# Altium schematic symbol library References.SchLib: 4 symbols
Pins are listed as number, name and electrical type; pins without a type are passive.

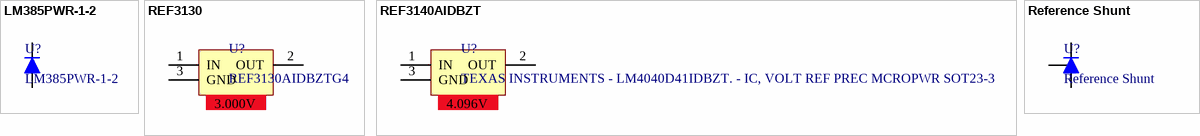
[diagram p0: symbols LM385PWR-1-2 to Reference Shunt]

## LM385PWR-1-2
designator U?
LM385B-1.2 Micropower Voltage References; Catalog number: 595-LM385PWR-1-2; Value: LM385PWR-1-2; Catalog: *; Price: 0,241
footprint TSSOP-8 pich 0.65 (TSOP, 8-Leads, Body 3.1x4.5mm (max), Pitch 0.65mm, IPC Medium Density)
pins: 4 A, 8 C

## REF3130
designator U?, comment REF3130AIDBZTG4
TEXAS INSTRUMENTS  REF3130AIDBZTG4  IC, SM, VOLT REF, 100UA; Catalog number: 1180187; Value: REF3130AIDBZTG4; Price: 1,54
footprint SOT23-3L (SOT23, 3-Leads, Body 2.9x1.3mm, Pitch 0.95mm, Lead Span 2.5mm, IPC High Density)
pins: 1 IN, 2 OUT, 3 GND
text: 3.000V

## REF3140AIDBZT
designator U?, comment TEXAS INSTRUMENTS - LM4040D41IDBZT. - IC, VOLT REF PREC MCROPWR SOT23-3
TEXAS INSTRUMENTS - REF3140AIDBZT - VOLTAGE REF, 4.096V, SOT-23-3; Catalog number: 2436711; Value: REF3140AIDBZT
footprint SOT23-3L (SOT23, 3-Leads, Body 2.9x1.3mm, Pitch 0.95mm, Lead Span 2.5mm, IPC High Density)
pins: 1 IN, 2 OUT, 3 GND
text: 4.096V

## Reference Shunt
designator U?
Value: *; Catalog: *; Catalog number: *
footprint SOT23-3L (SOT23, 3-Leads, Body 2.9x1.3mm, Pitch 0.95mm, Lead Span 2.5mm, IPC High Density)
footprint TO-92 3; pin to pad 2>3 3>2
pins: 1 Ref, 2 C, 3 A